# Altium footprint library VLC_TX.PcbLib: 2 footprints
Each footprint in its own frame and in the unit in brackets; x right, y up, seen from the top. Pads: shape width x height; smd on the part's side, far side on the other; paste and mask are expansions set on the pad; w line width, h text height; cw(c..) or ccw(c..) is an arc to the next point about the centre after c.
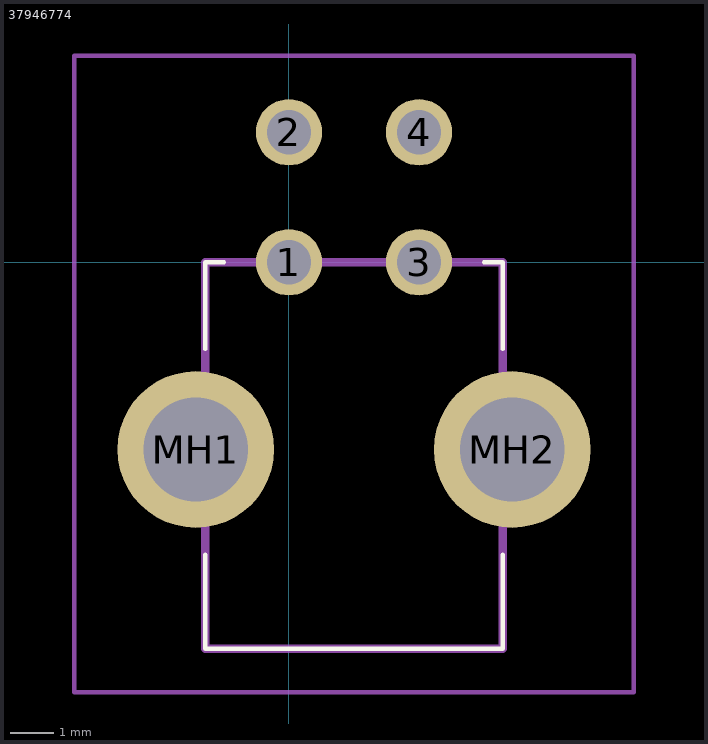
[diagram p0: the footprints below, top view; thin cyan lines are the x and y axes]

## 37946774 [mm]
pads (6):
  round 1.53 hole 1.02: 1(0,0) 2(0,3) 3(3,0) 4(3,3)
  round 3.615 hole 2.41: MH1(-2.15,-4.32) MH2(5.15,-4.32)
Top Overlay:
  lines w0.1: -1.93,-8.92 -1.93,-6.75 -1.93,-8.92 ; -1.93,-8.92 4.93,-8.92 ; -1.93,-8.92 4.93,-8.92 ; -1.93,0 -1.93,-2 -1.93,0 ; -1.93,0 -1.5,0 -1.93,0 ; 4.93,-8.92 4.93,-6.75 4.93,-8.92 ; 4.93,0 4.93,-2 4.93,0 ; 4.93,0 4.5,0 4.93,0
Mechanical 13:
  lines w0.2: -1.93,-8.92 -1.93,0 4.93,0 4.93,-8.92 -1.93,-8.92
Mechanical 15:
  lines w0.1: -4.957,-9.92 -4.957,4.765 7.957,4.765 7.957,-9.92 -4.957,-9.92
3D body "3-794677-4.stp": height 8.59, standoff -3.13, extent -3.5,-8.99 6.5,3.25

## PCBComponent_1 [mm]